# Altium schematic symbol library DIODE,Gen,75V,200mA,SOD523F.Schlib: 1 symbol
Pins are listed as number, name and electrical type; pins without a type are passive.

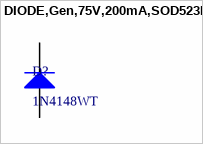
[diagram p0: symbol DIODE,Gen,75V,200mA,SOD523F]

## DIODE,Gen,75V,200mA,SOD523F
designator D?, comment 1N4148WT
Diode Standard 75 V 200mA Surface Mount SOD-523F
pins: 1 K, 2 A